# Altium footprint library SOIC.PcbLib: 10 footprints
Each footprint in its own frame and in the unit in brackets; x right, y up, seen from the top. Pads: shape width x height; smd on the part's side, far side on the other; paste and mask are expansions set on the pad; w line width, h text height; cw(c..) or ccw(c..) is an arc to the next point about the centre after c.
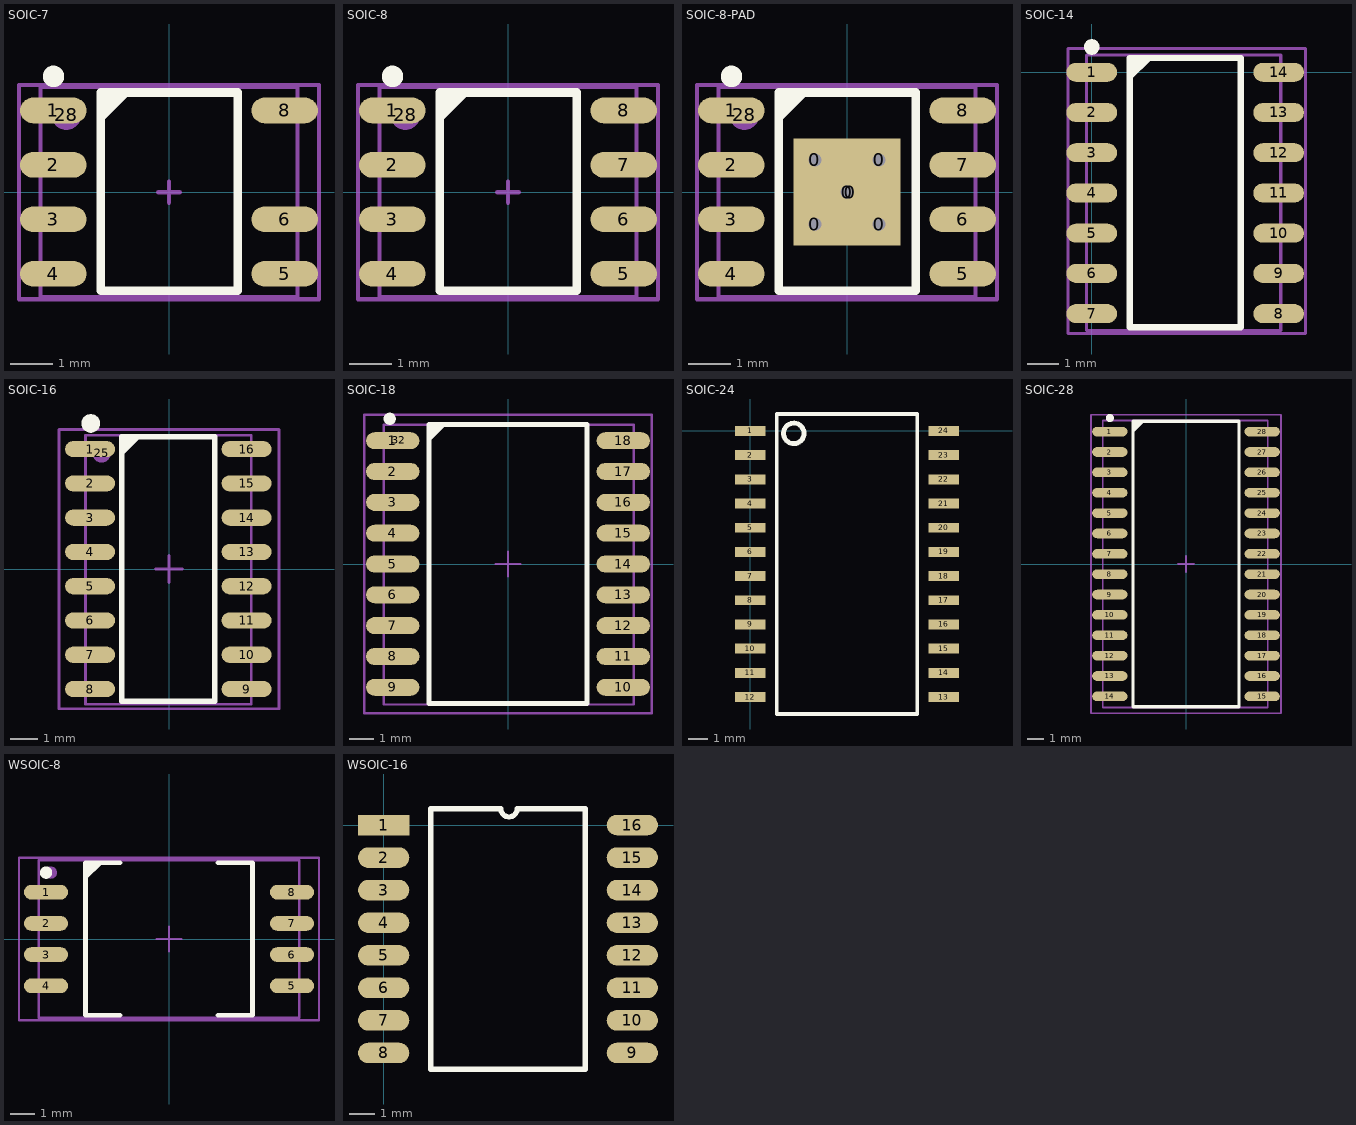
[diagram p0: the footprints below, top view; thin cyan lines are the x and y axes]

## SOIC-7 [mm] "pitch 1.27 mm"
height 5.08
pads (8):
  rrect100% 1.55x0.6 smd: 1(-2.7,1.905) 2(-2.7,0.635) 3(-2.7,-0.635) 4(-2.7,-1.905) 5(2.7,-1.905) 6(2.7,-0.635) 8(2.7,1.905)
  round 0.7 on Mech1: 28(-2.395,1.8)
Top Overlay:
  circle w0.25: c-2.695,2.7 r0.125
  region: -1.595,2.325 -1.595,1.605 -0.875,2.325
  lines w0.2: -1.595,-2.3 -1.595,2.325 1.605,2.325 1.605,-2.3 -1.595,-2.3
Mechanical 1:
  lines w0.1: -3,-2.45 3,-2.45 3,2.45 -3,2.45 -3,-2.45
Mechanical 15:
  lines w0.1: -0.25,0 0.25,0 ; 0,-0.25 0,0.25 ; -3.5,-2.5 3.5,-2.5 3.5,2.5 -3.5,2.5 -3.5,-2.5
3D body "User Library-SOIC-8-1.STEP": height 1.75, standoff 0, extent -3,-2.45 3,2.45

## SOIC-8 [mm] "pitch 1.27 mm"
pads (9):
  rrect100% 1.55x0.6 smd: 1(-2.7,1.905) 2(-2.7,0.635) 3(-2.7,-0.635) 4(-2.7,-1.905) 5(2.7,-1.905) 6(2.7,-0.635) 7(2.7,0.635) 8(2.7,1.905)
  round 0.7 on Mech1: 28(-2.395,1.8)
Top Overlay:
  circle w0.25: c-2.695,2.7 r0.125
  region: -1.595,2.325 -1.595,1.605 -0.875,2.325
  lines w0.2: -1.595,-2.3 1.605,-2.3 1.605,2.325 -1.595,2.325 -1.595,-2.3
Mechanical 1:
  lines w0.1: -3,-2.45 -3,2.45 3,2.45 3,-2.45 -3,-2.45
Mechanical 15:
  lines w0.1: -0.25,0 0.25,0 ; 0,-0.25 0,0.25 ; -3.5,-2.5 -3.5,2.5 3.5,2.5 3.5,-2.5 -3.5,-2.5
3D body "User Library-SOIC-8-1.STEP": height 1.75, standoff 0, extent -3,-2.45 3,2.45

## SOIC-8-PAD [mm] "pitch 1.27 mm, power pad"
pads (15):
  round 0.7 hole 0.3: 0(-0.75,-0.75) 0(-0.75,0.75) 0(0,0) 0(0.75,-0.75) 0(0.75,0.75)
  rrect100% 1.55x0.6 smd: 1(-2.7,1.905) 2(-2.7,0.635) 3(-2.7,-0.635) 4(-2.7,-1.905) 5(2.7,-1.905) 6(2.7,-0.635) 7(2.7,0.635) 8(2.7,1.905)
  round 0.7 on Mech1: 28(-2.395,1.8)
  rect 2.5x2.5 smd: " 0"(0,0)
Top Overlay:
  circle w0.25: c-2.695,2.7 r0.125
  region: -1.595,2.325 -1.595,1.605 -0.875,2.325
  lines w0.2: -1.595,-2.3 -1.595,2.325 1.605,2.325 1.605,-2.3 -1.595,-2.3
Mechanical 1:
  lines w0.1: -3,-2.45 3,-2.45 3,2.45 -3,2.45 -3,-2.45
Mechanical 15:
  lines w0.1: -0.25,0 0.25,0 ; 0,-0.25 0,0.25 ; -3.5,-2.5 3.5,-2.5 3.5,2.5 -3.5,2.5 -3.5,-2.5
3D body "User Library-SOIC-8-1.STEP": height 1.75, standoff 0, extent -3,-2.45 3,2.45

## SOIC-14 [mm] "pitch 1.27 mm"
pads (16):
  rrect100% 1.6x0.6 smd: 1(0,0) 2(0,-1.27) 3(0,-2.54) 4(0,-3.81) 5(0,-5.08) 6(0,-6.35) 7(0,-7.62) 8(5.9,-7.62) 9(5.9,-6.35) 10(5.9,-5.08) 11(5.9,-3.81) 12(5.9,-2.54) 13(5.9,-1.27) 14(5.9,0)
  rrect100% 0.5x0.5 on Top Overlay: ""(0,0.8)
  round 0.5 on Mech1: ""(0.5,0)
Top Overlay:
  region: 1.2,0.45 1.2,-0.27 1.92,0.45
  lines w0.2: 1.2,-8.05 4.7,-8.05 4.7,0.45 1.2,0.45 1.2,-8.05
Mechanical 1:
  lines w0.1: -0.168,-8.15 -0.168,0.55 5.969,0.55 5.969,-8.15 -0.168,-8.15
Mechanical 15:
  lines w0.1: -0.75,-8.25 -0.75,0.75 6.75,0.75 6.75,0.5 6.75,-8.25 -0.75,-8.25
3D body "User Library-so14-2.STEP": height 1.78, standoff 0.01, extent -0.118,-8.15 6.019,0.55

## SOIC-16 [mm] "pitch 1.27 mm"
height 2.65
pads (18):
  oval 1.85x0.6 smd: 1(-2.925,4.448) 2(-2.925,3.178) 3(-2.925,1.908) 4(-2.925,0.638) 5(-2.925,-0.632) 6(-2.925,-1.902) 7(-2.925,-3.172) 8(-2.925,-4.442) 9(2.875,-4.442) 10(2.875,-3.172) 11(2.875,-1.902) 12(2.875,-0.632) 13(2.875,0.638) 14(2.875,1.908) 15(2.875,3.178) 16(2.875,4.448)
  round 0.7 on Mech1: 25(-2.5,4.3)
  round 0.7 on Top Overlay: ""(-2.9,5.4)
Top Overlay:
  region: -1.75,4.9 -1.75,4.18 -1.03,4.9
  lines w0.2: -1.75,-4.9 1.7,-4.9 1.7,4.9 -1.75,4.9 -1.75,-4.9
Mechanical 1:
  lines w0.1: -3.093,-5.01 3.044,-5.01 3.044,4.96 -3.093,4.96 -3.093,-5.01
Mechanical 15:
  lines w0.1: -0.499,0.003 0.501,0.003 ; 0.001,-0.497 0.001,0.503 ; -4.075,-5.175 4.075,-5.175 4.075,5.175 -4.075,5.175 -4.075,-5.175
3D body "User Library-so16-1.STEP": height 1.73, standoff -0.04, extent -3.093,-5.01 3.044,4.96

## SOIC-18 [mm] "pitch 1.27 mm"
height 2.65
pads (19):
  oval 2.2x0.7 smd: 1(-4.75,5.08) 2(-4.75,3.81) 3(-4.75,2.54) 4(-4.75,1.27) 5(-4.75,0) 6(-4.75,-1.27) 7(-4.75,-2.54) 8(-4.75,-3.81) 9(-4.75,-5.08) 10(4.75,-5.08) 11(4.75,-3.81) 12(4.75,-2.54) 13(4.75,-1.27) 14(4.75,0) 15(4.75,1.27) 16(4.75,2.54) 17(4.75,3.81) 18(4.75,5.08)
  round 0.7 on Mech1: 32(-4.5,5.1)
Top Overlay:
  region: -3.25,5.75 -3.25,5.03 -2.53,5.75
  lines w0.2: -3.25,-5.75 -3.25,5.75 3.25,5.75 3.25,-5.75 -3.25,-5.75
  lines w0.25: -4.75,6 ccw(c-4.874,5.983) -4.749,5.983
Mechanical 1:
  lines w0.1: -5.125,-5.79 -5.125,5.74 5.175,5.74 5.175,-5.79 -5.125,-5.79
Mechanical 15:
  lines w0.1: -0.5,0 0.5,0 ; 0,-0.5 0,0.5 ; -5.925,-6.15 -5.925,6.15 5.925,6.15 5.925,-6.15 -5.925,-6.15
3D body "SW3dPS-SOIC18-300.STEP": height 2.65, standoff 0, extent -5.125,-5.79 5.175,5.74

## SOIC-24 [mm]
pads (24):
  rect 1.62x0.52 smd: 1(0,0) 2(0,-1.27) 3(0,-2.54) 4(0,-3.81) 5(0,-5.08) 6(0,-6.35) 7(0,-7.62) 8(0,-8.89) 9(0,-10.16) 10(0,-11.43) 11(0,-12.7) 12(0,-13.97) 13(10.16,-13.97) 14(10.16,-12.7) 15(10.16,-11.43) 16(10.16,-10.16) 17(10.16,-8.89) 18(10.16,-7.62) 19(10.16,-6.35) 20(10.16,-5.08) 21(10.16,-3.81) 22(10.16,-2.54) 23(10.16,-1.27) 24(10.16,0)
Top Overlay:
  circle w0.254: c2.286,-0.127 r0.539
  lines w0.2: 1.397,-14.859 1.397,0.889 8.763,0.889 8.763,-14.859 1.397,-14.859
3D body "User Library-SOIC-24-300.STEP": height 2.67, standoff 0.07, extent -0.22,-14.785 10.38,0.815

## SOIC-28 [mm] "pitch 1.27 mm"
height 2.65
pads (29):
  rrect100% 2.2x0.6 smd: 1(-4.75,8.255) 2(-4.75,6.985) 3(-4.75,5.715) 4(-4.75,4.445) 5(-4.75,3.175) 6(-4.75,1.905) 7(-4.75,0.635) 8(-4.75,-0.635) 9(-4.75,-1.905) 10(-4.75,-3.175) 11(-4.75,-4.445) 12(-4.75,-5.715) 13(-4.75,-6.985) 14(-4.75,-8.255) 15(4.75,-8.255) 16(4.75,-6.985) 17(4.75,-5.715) 18(4.75,-4.445) 19(4.75,-3.175) 20(4.75,-1.905) 21(4.75,-0.635) 22(4.75,0.635) 23(4.75,1.905) 24(4.75,3.175) 25(4.75,4.445) 26(4.75,5.715) 27(4.75,6.985) 28(4.75,8.255)
  round 0.5 on Mech1: ""(-4.5,8.3)
Top Overlay:
  circle w0.25: c-4.75,9.105 r0.125
  region: -3.3,8.9 -3.3,8.18 -2.58,8.9
  lines w0.2: -3.3,-8.9 3.3,-8.9 3.3,8.9 -3.3,8.9 -3.3,-8.9
Mechanical 1:
  lines w0.1: -5.2,-8.95 5.1,-8.95 5.1,8.95 -5.2,8.95 -5.2,-8.95
Mechanical 15:
  lines w0.1: -0.5,0 0.5,0 ; 0,-0.5 0,0.5 ; -5.925,-9.3 5.925,-9.3 5.925,9.3 -5.925,9.3 -5.925,-9.3
3D body "User Library-28-SOIC.STEP": height 2.73, standoff -0.03, extent -5.2,-8.95 5.1,8.95

## WSOIC-8 [mm] "pitch 1.27 mm, isolator"
pads (9):
  oval 1.8x0.6 smd: 1(-5,1.905) 2(-5,0.635) 3(-5,-0.635) 4(-5,-1.905) 5(5,-1.905) 6(5,-0.635) 7(5,0.635) 8(5,1.905)
  round 0.5 on Mech1: ""(-4.8,2.7)
Top Overlay:
  circle w0.25: c-5,2.7 r0.125
  region: -3.4,3.1 -3.4,2.38 -2.68,3.1
  lines w0.2: -2,-3.1 -3.4,-3.1 -3.4,3.1 -2,3.1 ; 2,-3.1 3.4,-3.1 3.4,3.1 2,3.1
Mechanical 1:
  lines w0.1: -5.3,-3.2 5.3,-3.2 5.3,3.2 -5.3,3.2 -5.3,-3.2
Mechanical 15:
  lines w0.1: -0.5,0 0.5,0 ; 0,-0.5 0,0.5 ; -6.1,-3.3 -6.1,3.3 6.1,3.3 6.1,-3.3 -6.1,-3.3
3D body "1EDC60I12AHXUMA1.STEP": height 1.7, standoff 0, extent -5.321,-3.18 5.321,3.17

## WSOIC-16 [mm]
pads (16):
  rect 2x0.8 smd: 1(0,0)
  oval 2x0.8 smd: 2(0,-1.27) 3(0,-2.54) 4(0,-3.81) 5(0,-5.08) 6(0,-6.35) 7(0,-7.62) 8(0,-8.89) 9(9.7,-8.89) 10(9.7,-7.62) 11(9.7,-6.35) 12(9.7,-5.08) 13(9.7,-3.81) 14(9.7,-2.54) 15(9.7,-1.27) 16(9.7,0)
Top Overlay:
  lines w0.2: 7.865,-9.525 7.865,0.635 5.207,0.635 cw(c4.889,0.635) 4.572,0.635 1.835,0.635 1.835,-9.525 7.874,-9.525
3D body "WSOIC16-300.STEP": height 2.65, standoff 0, extent -0.324,-9.595 9.976,0.705